# Altium schematic symbol library Header 31.SchLib: 1 symbol
Pins are listed as number, name and electrical type; pins without a type are passive.

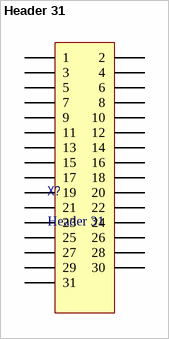
[diagram p0: symbol Header 31]

## Header 31
designator X?
Header, 31-Pin; Наименование: 3401 029 01B 31S FR136, MDM; Потребление: 0; Назначение: Header, 31-Pin
footprint MDM-31
footprint Назначение (Footprint not found)
pins: 1, 2, 3, 4, 5, 6, 7, 8, 9, 10, 11, 12, 13, 14, 15, 16, 17, 18, 19, 20, 21, 22, 23, 24, 25, 26, 27, 28, 29, 30, 31